# Altium footprint library DY01-030S.PcbLib: 1 footprints
Each footprint in its own frame and in the unit in brackets; x right, y up, seen from the top. Pads: shape width x height; smd on the part's side, far side on the other; paste and mask are expansions set on the pad; w line width, h text height; cw(c..) or ccw(c..) is an arc to the next point about the centre after c.
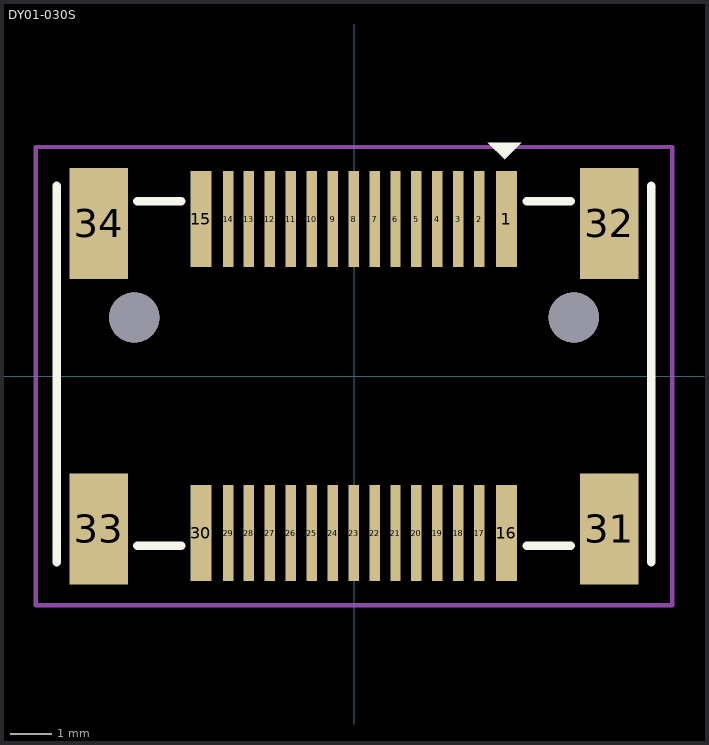
[diagram p0: the footprint, top view; thin cyan lines are the x and y axes]

## DY01-030S [mm]
pads (36):
  rect 0.5x2.3 smd: 1(3.641,3.75) 15(-3.659,3.75) 16(3.641,-3.75) 30(-3.659,-3.75)
  rect 0.25x2.3 smd: 2(2.991,3.75) 3(2.491,3.75) 4(1.991,3.75) 5(1.491,3.75) 6(0.991,3.75) 7(0.491,3.75) 8(-0.009,3.75) 9(-0.509,3.75) 10(-1.009,3.75) 11(-1.509,3.75) 12(-2.009,3.75) 13(-2.509,3.75) 14(-3.009,3.75) 17(2.991,-3.75) 18(2.491,-3.75) 19(1.991,-3.75) 20(1.491,-3.75) 21(0.991,-3.75) 22(0.491,-3.75) 23(-0.009,-3.75) 24(-0.509,-3.75) 25(-1.009,-3.75) 26(-1.509,-3.75) 27(-2.009,-3.75) 28(-2.509,-3.75) 29(-3.009,-3.75)
  rect 1.4x2.65 smd: 31(6.1,-3.65) 32(6.1,3.65) 33(-6.1,-3.65) 34(-6.1,3.65)
  round 1.2 hole 1.2 unplated mask+0: ""(-5.25,1.4) ""(5.25,1.4)
Top Overlay:
  region: 3.2,5.575 4,5.575 3.6,5.175
  lines w0.2: -7.1,-4.45 -7.1,4.55 ; -5.175,-4.05 -4.125,-4.05 ; -5.175,4.175 -4.125,4.175 ; 4.125,-4.05 5.175,-4.05 ; 4.125,4.175 5.175,4.175 ; 7.1,-4.45 7.1,4.55
Top Courtyard:
  lines w0.1: -7.6,-5.475 -6.8,-5.475 7.6,-5.475 7.6,5.475 -7.6,5.475 -7.6,-5.475
3D body "SPCEO0290.stp": height 4.2, standoff -0.45, extent -7.1,-4.45 7.1,4.55